# Altium footprint library DIP-C  0607.PcbLib: 73 footprints (part 4 of 5)
Each footprint in its own frame and in the unit in brackets; x right, y up, seen from the top. Pads: shape width x height; smd on the part's side, far side on the other; paste and mask are expansions set on the pad; w line width, h text height; cw(c..) or ccw(c..) is an arc to the next point about the centre after c.
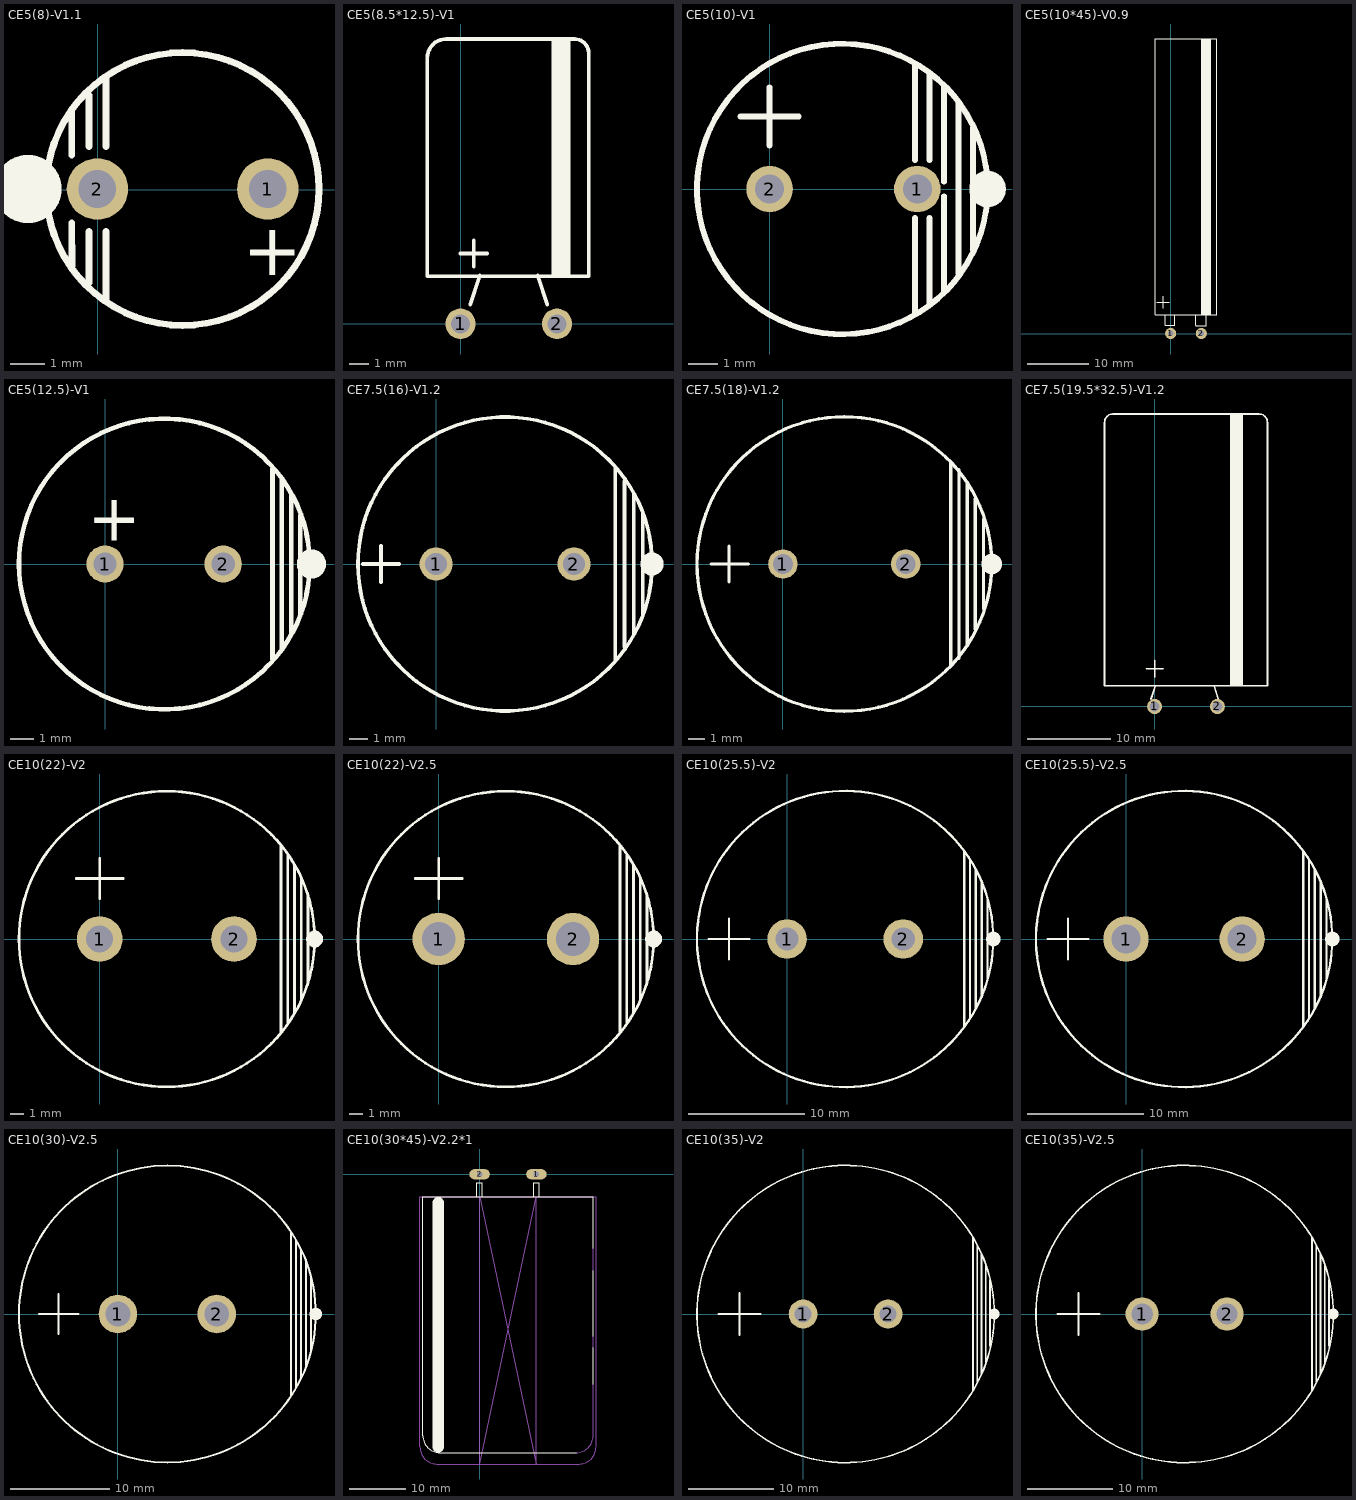
[diagram p3: the footprints below, top view; thin cyan lines are the x and y axes]

## CE5(8)-V1.1 [mm]
pads (2):
  round 1.8 hole 1.1: 1(4.988,0.024) 2(-0.012,0.024)
TopOverlay:
  circle w0.2: c2.488,0.024 r4
  circle w1.5: c-2.062,0.024 r0.25
  lines w0.2: -0.762,-2.226 -0.762,-0.976 ; -0.762,1.024 -0.762,2.274 ; -0.262,-2.726 -0.262,-1.226 ; -0.262,1.274 -0.262,2.774 ; 0.238,-3.226 0.238,-1.226 ; 0.238,1.274 0.238,3.274
  text "+" at 4.25,-2.5 h1.52

## CE5(8.5*12.5)-V1 [mm]
pads (2):
  round 1.6 hole 1: 1(0,0) 2(5.08,0)
TopOverlay:
  rectangle: 4.8,2.5 5.8,15
  lines w0.2: 0,3.7 1.4,3.7 ; 0.508,1.016 1.016,2.54 ; 0.7,3 0.7,4.4 ; 4.064,2.54 4.572,1.016 ; 6.75,2.5 6.75,14.25 ccw(c6,14.25) 6,15 -0.75,15 ccw(c-0.75,14) -1.75,14 -1.75,2.5 6.75,2.5

## CE5(10)-V1 [mm]
height 16
pads (2):
  round 1.6 hole 1: 1(5.08,0) 2(0,0)
TopOverlay:
  circle w0.61: c7.5,0 r0.323
  circle w0.2: c2.5,0 r5
  lines w0.2: -1,2.5 1,2.5 ; 0,1.5 0,3.5 ; 5,-4.25 5,-1 ; 5,1 5,4.25 ; 5.5,-4 5.5,-1 ; 5.5,1 5.5,4 ; 6,-3.5 6,-0.25 ; 6,0.25 6,3.5 ; 6.5,-2.9 6.5,3 ; 7,-2.1 7,2.1

## CE5(10*45)-V0.9 [mm]
pads (2):
  round 1.8 hole 0.9: 1(0.005,0.005) 2(5.005,0.005)
TopOverlay:
  rectangle: 4.98,3.105 6.58,48.105
  lines w0.2: -2.546,3.105 -2.546,48.105 7.556,48.105 7.556,3.105 ; -2.495,3.105 7.505,3.105 ; -2.245,5.105 -0.245,5.105 ; -1.245,4.105 -1.245,6.105 ; -0.87,3.105 -0.87,1.38 -0.845,1.355 0.63,1.355 0.63,3.105 ; 4.105,3.105 4.105,1.33 4.13,1.305 5.78,1.305 5.805,1.33 5.805,3.105

## CE5(12.5)-V1 [mm]
pads (2):
  round 1.6 hole 1: 1(0,0) 2(5.08,0)
TopOverlay:
  circle w0.2: c2.551,0 r6.25
  circle w0.61: c8.877,0 r0.323
  lines w0.2: 7.2,-4.1 7.2,4.1 ; 7.6,-3.6 7.6,3.6 ; 8,-3 8,3 ; 8.4,-2.2 8.4,2.1
  text "+" at -0.75,1 h2

## CE7.5(16)-V1.2 [mm]
pads (2):
  round 1.8 hole 1.2: 1(0,0) 2(7.5,0)
TopOverlay:
  circle w0.61: c11.75,0 r0.323
  circle w0.2: c3.75,0 r8
  lines w0.2: -4,0 -2,0 ; -3,-1 -3,1 ; 9.75,-5.25 9.75,5.25 ; 10.25,-4.5 10.25,4.5 ; 10.75,-3.75 10.75,3.75 ; 11.25,-2.75 11.25,2.75

## CE7.5(18)-V1.2 [mm]
pads (2):
  round 1.8 hole 1.2: 1(0,0) 2(7.5,0)
TopOverlay:
  circle w0.2: c3.75,0 r9
  circle w0.61: c12.75,0 r0.323
  lines w0.2: -4.4,0 -2.1,0 ; -3.3,-1.1 -3.3,1.1 ; 10.25,-6.25 10.25,6.25 ; 10.75,-5.75 10.75,5.75 ; 11.25,-5 11.25,5 ; 11.75,-4 11.75,4 ; 12.25,-2.75 12.25,2.75

## CE7.5(19.5*32.5)-V1.2 [mm]
pads (2):
  round 1.8 hole 1.2: 1(0,0) 2(7.5,0)
TopOverlay:
  rectangle: 9,2.5 10.6,35
  lines w0.2: -1,4.5 1,4.5 ; -0.438,0.889 0.07,2.413 ; 0,3.5 0,5.5 ; 7.118,2.413 7.626,0.889 ; -6,2.5 -6,34 cw(c-5,34) -5,35 12.5,35 cw(c12.5,34) 13.5,34 13.5,2.5 -6,2.5

## CE10(22)-V2 [mm]
height 35
pads (2):
  round 3.4 hole 2: 1(0,0) 2(10,0)
TopOverlay:
  circle w0.2: c5,0 r11
  circle w0.61: c16,0 r0.323
  lines w0.2: -1.75,4.5 1.75,4.5 ; 0,3 0,6 ; 13.5,-7 13.5,7 ; 14,-6.25 14,6.25 ; 14.5,-5.5 14.5,5.5 ; 15,-4.5 15,4.5 ; 15.5,-3.25 15.5,3.25

## CE10(22)-V2.5 [mm]
pads (2):
  round 3.9 hole 2.5: 1(0,0) 2(10,0)
TopOverlay:
  circle w0.2: c5,0 r11
  circle w0.61: c16,0 r0.323
  lines w0.2: -1.75,4.5 1.75,4.5 ; 0,3 0,6 ; 13.5,-7 13.5,7 ; 14,-6.25 14,6.25 ; 14.5,-5.5 14.5,5.5 ; 15,-4.5 15,4.5 ; 15.5,-3.25 15.5,3.25

## CE10(25.5)-V2 [mm]
height 40
pads (2):
  round 3.4 hole 2: 1(0,0) 2(10,0)
TopOverlay:
  circle w0.2: c5,0 r12.75
  circle w0.61: c17.75,0 r0.323
  lines w0.2: -6.75,0 -3.25,0 ; -5,-1.75 -5,1.75 ; 15.25,-7.5 15.25,7.5 ; 15.75,-6.75 15.75,6.75 ; 16.25,-6 16.25,6 ; 16.75,-5 16.75,5 ; 17.25,-3.5 17.25,3.5

## CE10(25.5)-V2.5 [mm]
pads (2):
  round 3.9 hole 2.5: 1(0,0) 2(10,0)
TopOverlay:
  circle w0.2: c5,0 r12.75
  circle w0.61: c17.75,0 r0.323
  lines w0.2: -6.75,0 -3.25,0 ; -5,-1.75 -5,1.75 ; 15.25,-7.5 15.25,7.5 ; 15.75,-6.75 15.75,6.75 ; 16.25,-6 16.25,6 ; 16.75,-5 16.75,5 ; 17.25,-3.5 17.25,3.5

## CE10(30)-V2.5 [mm]
pads (2):
  round 3.9 hole 2.5: 1(0,0) 2(10,0)
TopOverlay:
  circle w0.61: c20,0 r0.323
  circle w0.2: c5,0 r15
  lines w0.2: -8,0 -4,0 ; -6,-2 -6,2 ; 17.5,-8.25 17.5,8.25 ; 18,-7.5 18,7.5 ; 18.5,-6.5 18.5,6.5 ; 19,-5.25 19,5.5 ; 19.5,-3.75 19.5,3.75

## CE10(30*45)-V2.2*1 [mm]
pads (2):
  oval 3.6x1.8 hole 1: 1(10.011,-0.002) 2(0.011,-0.002)
TopOverlay:
  lines w0.2: -0.489,-4.002 -0.489,-1.502 0.511,-1.502 0.511,-4.002 ; 9.511,-4.002 9.511,-1.502 10.511,-1.502 10.511,-4.002 ; 17.011,-49.002 -6.989,-49.002 cw(c-6.989,-46.002) -9.989,-46.002 -9.989,-4.002 20.011,-4.002 20.011,-13.002 ; 20.011,-37.002 20.011,-30.502 ; 20.011,-28.502 20.011,-17.002
  lines w2: -7.25,-48.002 -7.25,-5.002
TopSolder:
  lines w1.2: -0.589,-0.002 0.611,-0.002 ; 9.411,-0.002 10.611,-0.002
Mechanical7:
  lines w0.001: -10.489,-48.002 ccw(c-7.489,-48.002) -7.489,-51.002 ; 17.011,-49.002 ccw(c17.011,-46.002) 20.011,-46.002 ; 17.511,-51.002 ccw(c17.511,-48.002) 20.511,-48.002
  lines w0.2: -10.489,-48.002 -10.489,-4.002 20.511,-4.002 20.511,-48.002 ; -7.489,-51.002 17.511,-51.002 ; 20.011,-37.002 20.011,-46.002 ; 20.011,-30.502 20.011,-28.502 ; 20.011,-17.002 20.011,-13.002 ; 20.011,-46.002 20.011,-46.002 ; 0.011,-51.002 10.011,-4.002 10.011,-51.002 0.011,-4.002 0.011,-51.002
Mechanical11:
  lines w0.2: -0.589,-0.502 cw(c-0.589,-0.002) -0.589,0.498 0.611,0.498 cw(c0.611,-0.002) 0.611,-0.502 -0.589,-0.502 ; 9.411,-0.502 cw(c9.411,-0.002) 9.411,0.498 10.611,0.498 cw(c10.611,-0.002) 10.611,-0.502 9.411,-0.502
DrillDrawing:
  lines w0.2: -0.589,-0.502 cw(c-0.589,-0.002) -0.589,0.498 0.611,0.498 cw(c0.611,-0.002) 0.611,-0.502 -0.589,-0.502 ; 9.411,-0.502 cw(c9.411,-0.002) 9.411,0.498 10.611,0.498 cw(c10.611,-0.002) 10.611,-0.502 9.411,-0.502
  text "(2.2X1)*2" at 1.311,-1.902 h1.2

## CE10(35)-V2 [mm]
height 40
pads (2):
  round 3.4 hole 2: 1(0,0) 2(10,0)
TopOverlay:
  circle w0.2: c5,0 r17.5
  circle w0.61: c22.5,0 r0.323
  lines w0.2: -10,0 -5,0 ; -7.5,-2.5 -7.5,2.5 ; 20,-9 20,9 ; 20.5,-8 20.5,8 ; 21,-7 21,7 ; 21.5,-5.75 21.5,5.75 ; 22,-3.75 22,4

## CE10(35)-V2.5 [mm]
pads (2):
  round 3.9 hole 2.5: 1(0,0) 2(10,0)
TopOverlay:
  circle w0.61: c22.5,0 r0.323
  circle w0.2: c5,0 r17.5
  lines w0.2: -10,0 -5,0 ; -7.5,-2.5 -7.5,2.5 ; 20,-9 20,9 ; 20.5,-8 20.5,8 ; 21,-7 21,7 ; 21.5,-5.75 21.5,5.75 ; 22,-3.75 22,4